# Altium footprint library 1.5nF Capacitor.PcbLib: 1 footprints
Each footprint in its own frame and in the unit in brackets; x right, y up, seen from the top. Pads: shape width x height; smd on the part's side, far side on the other; paste and mask are expansions set on the pad; w line width, h text height; cw(c..) or ccw(c..) is an arc to the next point about the centre after c.
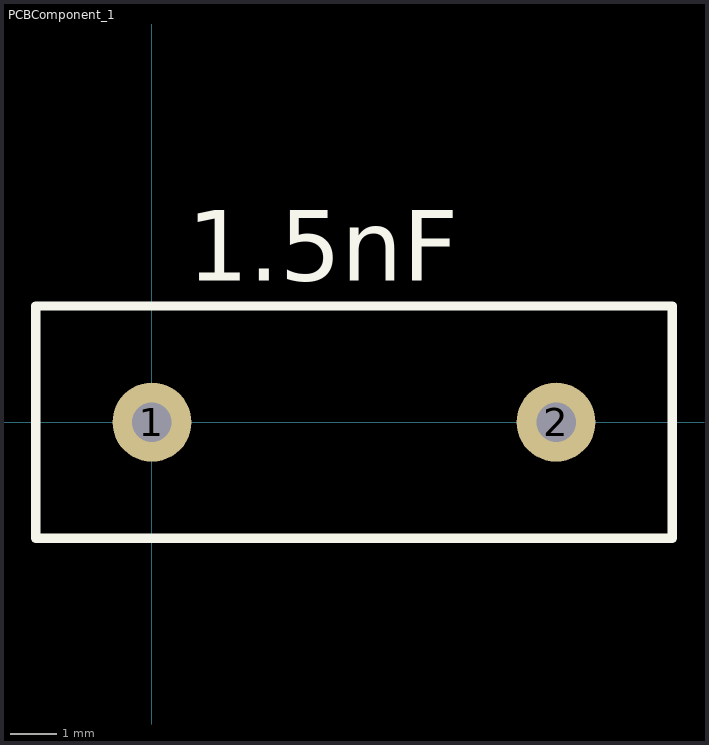
[diagram p0: the footprint, top view; thin cyan lines are the x and y axes]

## PCBComponent_1 [mm]
pads (2):
  round 1.7 hole 0.85: 1(0,0) 2(8.7,0)
Top Overlay:
  lines w0.2: -2.5,-2.5 0,-2.5 8.7,-2.5 11.2,-2.5 11.2,2.5 8.7,2.5 0,2.5 -2.5,2.5 -2.5,-2.5
  text "1.5nF" at 0.762,3.048 h1.52